# Altium schematic symbol library PCA9539.SchLib: 1 symbol
Pins are listed as number, name and electrical type; pins without a type are passive.

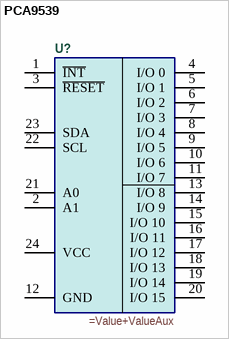
[diagram p0: symbol PCA9539]

## PCA9539
designator U?
=Description
pins: 1 ~{INT}, 2 A1, 3 ~{RESET}, 4 I/O 0, 5 I/O 1, 6 I/O 2, 7 I/O 3, 8 I/O 4, 9 I/O 5, 10 I/O 6, 11 I/O 7, 12 GND, 13 I/O 8, 14 I/O 9, 15 I/O 10, 16 I/O 11, 17 I/O 12, 18 I/O 13, 19 I/O 14, 20 I/O 15, 21 A0, 22 SCL, 23 SDA, 24 VCC